# EAGLE library part ROTARY (library mastrogippo)
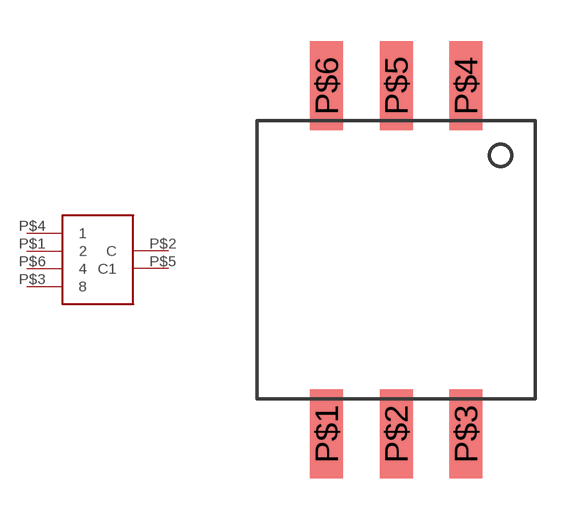
[diagram p50: symbol with the pads of ROTARY; footprint ROTARY]

Designator prefix -

## ROTARY  [ROTARY]
P$1  2
P$2  C
P$3  8
P$4  1
P$5  C1
P$6  4

## Footprint ROTARY (pad centres in mm)
smd 1.2 x 3.25: P$1 0,0; P$2 2.54,0; P$3 5.08,0; P$4 5.08,12.7; P$5 2.54,12.7; P$6 0,12.7